# Altium schematic symbol library test.SchLib: 309 symbols (part 9 of 9)
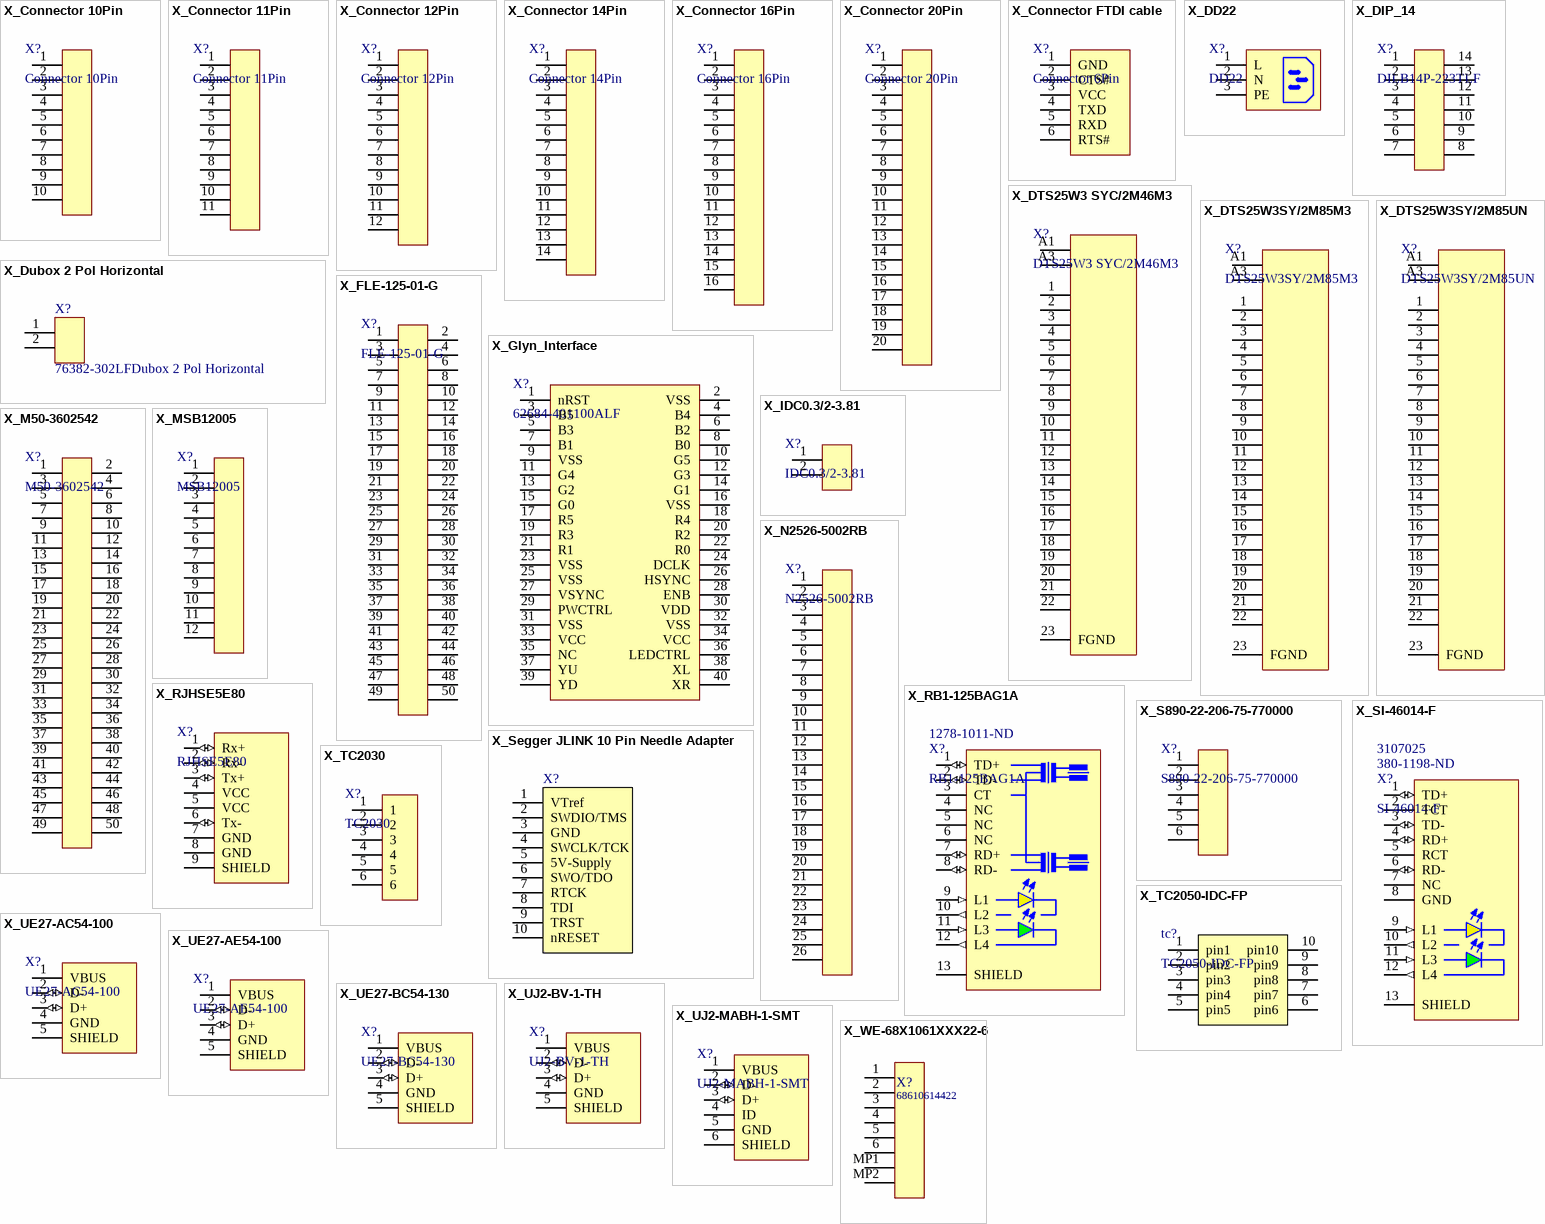
[diagram p16: symbols X_Connector 10Pin to X_WE-68X1061XXX22-6]

## X_DD22
designator X?, comment DD22
PWR ENT MOD RCPT IEC320-C14 PNL; Manufacturer: Schurter; Manufacturer Part Number: DD22.9121.1111; Max Voltage Rating (AC): 250V; Number of Contacts: 3; Current Rating: 10A; Connector Type: Receptacle; Fuse: Yes; Number of Ports: 1; Capacitance: 100nF; Gender: Male; Panel Thickness: 0.138inch; Ratings: IP40; Approvals: cULus; Supplier 1: Digi-Key; Supplier Part Number 1: 486-1324-ND; Stock 1: 369; Pricing 1: 1 = 28.45000, 50 = 26.16700, 100 = 23.88410 (USD); RoHS: Yes; Mount: Through Hole; Case/Package: Module; Weight: 3oz; Housing Material: Thermoplastic; Min Operating Temperature: -25°C; Max Operating Temperature: 85°C; Termination: Solder; Package Quantity: 20; Packaging: Bulk; Number of Positions: 3; Current: 10A; Voltage Rating: 250V; Max Current Rating: 10A; Voltage Rating (AC): 250V; Orientation: Right Angle; Voltage Rating (DC): 250V; Length: 66.3mm; Height: 33mm; Depth: 60.9mm; Width: 66.3mm; Radiation Hardening: No; Flammability Rating: UL94 V-0; REACH SVHC: No SVHC; ComponentLink1URL: https://datasheet.ciiva.com/25623/0900766b81148cd2-25623212.pdf?src-supplier=RSComponents; ComponentLink1Description: https://datasheet.ciiva.com/25623/0900766b81148cd2-25623212.pdf?src-supplier=RSComponents; ComponentLink2URL: https://datasheet.ciiva.com/4582/typ-dd22-4582999.pdf?src-supplier=Mouser; ComponentLink2Description: https://datasheet.ciiva.com/4582/typ-dd22-4582999.pdf?src-supplier=Mouser; ComponentLink3URL: https://datasheet.ciiva.com/16645/typ-dd22-16645175.pdf?src-supplier=Avnet+Europe; ComponentLink3Description: https://datasheet.ciiva.com/16645/typ-dd22-16645175.pdf?src-supplier=Avnet+Europe; ComponentLink4URL: https://datasheet.ciiva.com/1019/typ-dd22-1019705.pdf?src-supplier=Digi-Key; ComponentLink4Description: https://datasheet.ciiva.com/1019/typ-dd22-1019705.pdf?src-supplier=Digi-Key; ComponentLink5URL: https://datasheet.ciiva.com/1470/1712865-1470106.pdf?src-supplier=Element14; ComponentLink5Description: https://datasheet.ciiva.com/1470/1712865-1470106.pdf?src-supplier=Element14; ComponentLink6URL: https://datasheet.ciiva.com/3147/typ-dd22-3147709.pdf?src-supplier=Avnet; ComponentLink6Description: https://datasheet.ciiva.com/3147/typ-dd22-3147709.pdf?src-supplier=Avnet; ComponentLink7URL: https://datasheet.ciiva.com/14122/bnappliancecouplers-ce-conformity-d-e-f-14122957.pdf?src-supplier=Distrelec; ComponentLink7Description: https://datasheet.ciiva.com/14122/bnappliancecouplers-ce-conformity-d-e-f-14122957.pdf?src-supplier=Distrelec
footprint Schurter D22
pins: 1 L (power), 2 N (power), 3 PE (power)

## X_DIP_14
designator X?, comment DILB14P-223TLF
Conn DIP Socket SKT 14 POS 2.54mm Solder ST Thru-Hole Tube; Manufacturer: Amphenol ICC / FCI; Current Rating: 1A; Voltage Rating (AC): 200V; Contact Resistance: 20mR; Insulation Resistance: 500MR; Number of Positions: 14; Row Spacing: 7.62mm; Contact Post Length: 0.124inch; Supplier 1: Digi-Key; Supplier Part Number 1: 609-4712-ND; Manufacturer Part Number: DILB14P-223TLF; RoHS: Yes; Category: IC and Component Sockets; Stock 1: 8401; Pricing 1: 1=0.28000, 10=0.25800, 25=0.22040, 50=0.19280, 100=0.17910, 250=0.15844, 500=0.15154, 1000=0.12399, 2500=0.11366 (USD); Mount: Through Hole; Case/Package: DIP; Contact Plating: Tin; Contact Material: Copper Alloy,Bronze; Housing Material: Polyamide; Insulation Material: Polyester; Contact Finish - Mating: TIN; Min Operating Temperature: -55°C; Max Operating Temperature: 105°C; Package Quantity: 34; Number of Rows: 2; Packaging: Rail/Tube; Termination: Solder; Number of Contacts: 14; Voltage Rating: 200V; Connector Type: DIP; Orientation: Straight; Contact Type: SAF; Series: -; Length: 17.78mm; Width: 15.24mm; Pitch: 2.54mm; Depth: 10.16mm; Radiation Hardening: No; REACH SVHC: No SVHC; Flammability Rating: UL94 V-0; ComponentLink1URL: https://datasheet.ciiva.com/15171/getdatasheetpartid-85168-15171446.pdf?src-supplier=Verical; ComponentLink1Description: https://datasheet.ciiva.com/15171/getdatasheetpartid-85168-15171446.pdf?src-supplier=Verical; ComponentLink2URL: https://datasheet.ciiva.com/26929/getdatasheetpartid-771097-26929615.pdf?src-supplier=Verical; ComponentLink2Description: https://datasheet.ciiva.com/26929/getdatasheetpartid-771097-26929615.pdf?src-supplier=Verical; ComponentLink3URL: https://datasheet.ciiva.com/7644/10052485-7644415.pdf?src-supplier=Element14; ComponentLink3Description: https://datasheet.ciiva.com/7644/10052485-7644415.pdf?src-supplier=Element14; ComponentLink4URL: https://datasheet.ciiva.com/29706/10052485-29706856.pdf?src-supplier=Digi-Key; ComponentLink4Description: https://datasheet.ciiva.com/29706/10052485-29706856.pdf?src-supplier=Digi-Key; ComponentLink5URL: https://datasheet.ciiva.com/14602/70236934-14602829.pdf?src-supplier=Allied+Electronics; ComponentLink5Description: https://datasheet.ciiva.com/14602/70236934-14602829.pdf?src-supplier=Allied+Electronics; Supplier 2: Farnell; Stock 2: 5134; Pricing 2: 10=0.14900, 100=0.11700, 500=0.10600, 1000=0.09580, 2500=0.08760, 5000=0.08580 (GBP); Supplier 3: Farnell; Supplier Part Number 2: 2668404; Supplier Part Number 3: 1824462
footprint DIL-14 (14 way Augat tin plate DIL socket,0.3in)
pins: 1, 2, 3, 4, 5, 6, 7, 8, 9, 10, 11, 12, 13, 14

## X_DTS25W3 SYC/2M46M3
designator X?, comment DTS25W3 SYC/2M46M3
DTS25W3 SYC/2M46M3 Konfiguration / A1, A3: HPC-SYC4/2-40A: DE009516 / A2: PNC-SY4: DE016200; Manufacturer: Deltron; Supplier 2: Deltron; Supplier Part Number 2: DE016524; Manufacturer Part Number: DTS25W3 SYC/2M46M3; Case/Package: D-Sub; Supplier 1: Safematic; Supplier Part Number 1: *
footprint 25POL_DSUB_SPEZ_FEMALE
pins: 1 (power), 2 (power), 3 (power), 4 (power), 5 (power), 6 (power), 7 (power), 8 (power), 9 (power), 10 (power), 11 (power), 12 (power), 13 (power), 14 (power), 15 (power), 16 (power), 17 (power), 18 (power), 19 (power), 20 (power), 21 (power), 22 (power), 23 FGND (power), A1 (power), A3 (power)

## X_DTS25W3SY/2M85M3
designator X?, comment DTS25W3SY/2M85M3
DTS25W3SY/2M85M3 Konfiguration / A1, A3: HPC-SY4/2-40A: DE006048 / A2: PNC-SY4: DE016200; Manufacturer: Deltron; Manufacturer Part Number: DTS25W3 SYC/2M46M3; Supplier 2: Deltron; Case/Package: D-Sub; Supplier 1: Safematic; Supplier Part Number 1: *
footprint DTS25W3SY
pins: 1 (power), 2 (power), 3 (power), 4 (power), 5 (power), 6 (power), 7 (power), 8 (power), 9 (power), 10 (power), 11 (power), 12 (power), 13 (power), 14 (power), 15 (power), 16 (power), 17 (power), 18 (power), 19 (power), 20 (power), 21 (power), 22 (power), 23 FGND (power), A1 (power), A3 (power)

## X_DTS25W3SY/2M85UN
designator X?, comment DTS25W3SY/2M85UN
DTS25W3SY/2M85UN Konfiguration / A1, A3: HPC-SY4/2-40A: DE006048 / A2: PNC-SY4: DE016200; Manufacturer: Deltron; Supplier 2: Deltron; Manufacturer Part Number: DTS25W3SY/2M85UN; Case/Package: D-Sub; Supplier 1: Safematic; Supplier Part Number 1: *
footprint DTS25W3SY
pins: 1 (power), 2 (power), 3 (power), 4 (power), 5 (power), 6 (power), 7 (power), 8 (power), 9 (power), 10 (power), 11 (power), 12 (power), 13 (power), 14 (power), 15 (power), 16 (power), 17 (power), 18 (power), 19 (power), 20 (power), 21 (power), 22 (power), 23 FGND (power), A1 (power), A3 (power)

## X_Dubox 2 Pol Horizontal
designator X?, comment 76382-302LFDubox 2 Pol Horizontal
CONN HEADER 2POS .100" R/A GOLD; Manufacturer: Amphenol FCI; Number of Contacts: 2; Connector Type: Male Pin; Insulation Resistance: 100GR; Current Rating: 3A; Voltage Rating: 1kV; Gender: Male; Pitch: 2.54mm; Contact Post Length: 3.4mm; RoHS: Yes; Category: Headers and Wire Housings; Stock 1: 3451; Pricing 1: 10=0.41800, 100=0.31300, 500=0.27500, 1000=0.23000, 2500=0.20200, 5000=0.19800 (GBP); Mount: Through Hole; Contact Plating: Gold,GXT; Housing Material: Polyester; Contact Material: Bronze,Nickel,Gold; Color: Blue; Housing Color: Blue; Min Operating Temperature: -40°C; Max Operating Temperature: 125°C; Termination: Solder; Number of Rows: 1; Number of Positions: 2; Packaging: Bulk; Package Quantity: 500; Max Voltage Rating (AC): 1kV; Orientation: Right Angle; Fastening Type: Friction; Length: 4.9mm; Width: 9.34mm; Contact Mating Length: 0.197inch; Radiation Hardening: No; Lead Free: Lead Free; REACH SVHC: No SVHC; ComponentLink1URL: https://datasheet.ciiva.com/711/76382-711154.pdf?src-supplier=Digi-Key; ComponentLink1Description: https://datasheet.ciiva.com/711/76382-711154.pdf?src-supplier=Digi-Key; ComponentLink2URL: https://datasheet.ciiva.com/3118/76382-3118554.pdf?src-supplier=Avnet; ComponentLink2Description: https://datasheet.ciiva.com/3118/76382-3118554.pdf?src-supplier=Avnet; ComponentLink3URL: https://datasheet.ciiva.com/16656/76382-16656699.pdf?src-supplier=Avnet+Europe; ComponentLink3Description: https://datasheet.ciiva.com/16656/76382-16656699.pdf?src-supplier=Avnet+Europe; ComponentLink4URL: https://datasheet.ciiva.com/14155/gd116700-116785-14155518.pdf?src-supplier=Distrelec; ComponentLink4Description: https://datasheet.ciiva.com/14155/gd116700-116785-14155518.pdf?src-supplier=Distrelec; Supplier 1: Farnell; Supplier 2: Digi-Key; Supplier 3: Mouser; Supplier Part Number 1: 2490643; Supplier Part Number 2: 609-1278-ND; Supplier Part Number 3: 649-76382-302LF; Manufacturer Part Number: 76382-302LF
footprint Pin Header 1x2 TH Pitch 2.54mm Dubox h
pins: 1, 2

## X_FLE-125-01-G
designator X?, comment FLE-125-01-G
Conn Socket Strip SKT 50 POS 1.27mm Solder ST SMD Tube; Manufacturer: Samtec; Supplier 1: Digi-Key; Supplier Part Number 1: SAM9410-ND; Manufacturer Part Number: FLE-125-01; ComponentLink4URL: http://www.samtec.com/documents/webfiles/pdf/FLE_SM.PDF; ComponentLink4Description: http://www.samtec.com/documents/webfiles/pdf/FLE_SM.PDF; ComponentLink5URL: http://cloud.samtec.com/catalog_english/FLE_SM.PDF; ComponentLink5Description: http://cloud.samtec.com/catalog_english/FLE_SM.PDF
footprint FLE-125-01-G-DV-A
pins: 1, 2, 3, 4, 5, 6, 7, 8, 9, 10, 11, 12, 13, 14, 15, 16, 17, 18, 19, 20, 21, 22, 23, 24, 25, 26, 27, 28, 29, 30, 31, 32, 33, 34, 35, 36, 37, 38, 39, 40, 41, 42, 43, 44, 45, 46, 47, 48, 49, 50

## X_Glyn_Interface
designator X?, comment 62684-401100ALF
40 Position FPC Connector Contacts, Bottom 0.020" (0.50mm) Surface Mount, Right Angle, Amphenol 62684-401100ALF, TE  4-1734592-0; Manufacturer: Amphenol FCI; Supplier 1: Digi-Key; Supplier Part Number 1: 609-1195-1-ND; Manufacturer Part Number: 62684-401100ALF; ComponentLink1URL: https://datasheet.ciiva.com/25631/0900766b8118e51f-25631168.pdf; ComponentLink1Description: https://datasheet.ciiva.com/25631/0900766b8118e51f-25631168.pdf; ComponentLink2URL: https://datasheet.ciiva.com/3112/62684-3112007.pdf; ComponentLink2Description: https://datasheet.ciiva.com/3112/62684-3112007.pdf; ComponentLink3URL: https://datasheet.ciiva.com/670/62684-670200.pdf; ComponentLink3Description: https://datasheet.ciiva.com/670/62684-670200.pdf; ComponentLink4URL: https://datasheet.ciiva.com/670/62684-670201.pdf; ComponentLink4Description: https://datasheet.ciiva.com/670/62684-670201.pdf; ComponentLink5URL: https://datasheet.ciiva.com/670/62684-670202.pdf; ComponentLink5Description: https://datasheet.ciiva.com/670/62684-670202.pdf; ComponentLink6URL: https://datasheet.ciiva.com/16659/62684-16659882.pdf; ComponentLink6Description: https://datasheet.ciiva.com/16659/62684-16659882.pdf; ComponentLink7URL: https://datasheet.ciiva.com/16709/70236840-16709916.pdf; ComponentLink7Description: https://datasheet.ciiva.com/16709/70236840-16709916.pdf; ComponentLink8URL: https://datasheet.ciiva.com/3112/62684-3112397.pdf; ComponentLink8Description: https://datasheet.ciiva.com/3112/62684-3112397.pdf; ComponentLink9URL: https://datasheet.ciiva.com/5772/62684-5772782.pdf; ComponentLink9Description: https://datasheet.ciiva.com/5772/62684-5772782.pdf; Supplier 2: Digi-Key; Supplier Part Number 2: A100226CT-ND; Manufacturer 2: TE CONNECTIVITY; Stock 2: 2337; ComponentLink10URL: https://datasheet.ciiva.com/16317/4-1734592-0-16317310.pdf; ComponentLink10Description: https://datasheet.ciiva.com/16317/4-1734592-0-16317310.pdf; ComponentLink11URL: https://datasheet.ciiva.com/46396/1795029-46396773.pdf; ComponentLink11Description: https://datasheet.ciiva.com/46396/1795029-46396773.pdf; ComponentLink12URL: https://datasheet.ciiva.com/10365/eng-ds-1-1773440-6-0506-10365927.pdf; ComponentLink12Description: https://datasheet.ciiva.com/10365/eng-ds-1-1773440-6-0506-10365927.pdf; ComponentLink13URL: https://datasheet.ciiva.com/669/eng-cd-1734592-c-c-1734592-669272.pdf; ComponentLink13Description: https://datasheet.ciiva.com/669/eng-cd-1734592-c-c-1734592-669272.pdf; ComponentLink14URL: https://datasheet.ciiva.com/669/eng-cd-1734592-c-c-1734592-669273.pdf; ComponentLink14Description: https://datasheet.ciiva.com/669/eng-cd-1734592-c-c-1734592-669273.pdf; ComponentLink15URL: https://datasheet.ciiva.com/669/eng-cd-1734592-c-c-1734592-669274.pdf; ComponentLink15Description: https://datasheet.ciiva.com/669/eng-cd-1734592-c-c-1734592-669274.pdf; ComponentLink16URL: https://datasheet.ciiva.com/16660/eng-ds-1-1773440-6-0506-16660381.pdf; ComponentLink16Description: https://datasheet.ciiva.com/16660/eng-ds-1-1773440-6-0506-16660381.pdf; ComponentLink17URL: https://datasheet.ciiva.com/1437/586796-1437950.pdf; ComponentLink17Description: https://datasheet.ciiva.com/1437/586796-1437950.pdf; Manufacturer Part Number 2: 4-1734592-0
footprint 4-1734592-0
pins: 1 nRST, 2 VSS, 3 B5, 4 B4, 5 B3, 6 B2, 7 B1, 8 B0, 9 VSS, 10 G5, 11 G4, 12 G3, 13 G2, 14 G1, 15 G0, 16 VSS, 17 R5, 18 R4, 19 R3, 20 R2, 21 R1, 22 R0, 23 VSS, 24 DCLK, 25 VSS, 26 HSYNC, 27 VSYNC, 28 ENB, 29 PWCTRL, 30 VDD, 31 VSS, 32 VSS, 33 VCC, 34 VCC, 35 NC, 36 LEDCTRL, 37 YU, 38 XL, 39 YD, 40 XR

## X_IDC0.3/2-3.81
designator X?, comment IDC0.3/2-3.81
Conn Terminal Block 2 POS 3.81mm Solder ST Thru-Hole 5A; Manufacturer: Phoenix Contact; Max Supply Voltage: 160V; Wire Gauge (Max): 26AWG; Wire Gauge (Min): 22AWG; Supplier 1: Farnell; Supplier Part Number 1: 2927588; Manufacturer Part Number: IDC0.3/2-3.81; Stock 1: 0; RoHS: Yes; Housing Material: Polyamide; Number of Rows: 1; Max Current Rating: 5A; Termination: Solder; Orientation: Straight; Length: 8.81mm; Depth: 12.4mm; ComponentLink1URL: http://components.arrow.com/part/dataview/0323_01943627?src-supplier=Arrow+Europe; ComponentLink1Description: http://components.arrow.com/part/dataview/0323_01943627?src-supplier=Arrow+Europe
footprint IDC 0,3/ 2-3,81
pins: 1, 2

## X_M50-3602542
designator X?, comment M50-3602542
CONN HDR 1.27MM SMD AU 50POS; Manufacturer: Harwin; Number of Contacts: 50; Max Current Rating: 1A; Contact Resistance: 30mR; Gender: Male; Insulation Resistance: 5GR; Row Spacing: 0.05inch; Supplier 1: Digi-Key; Supplier Part Number 1: 952-1394-ND; Manufacturer Part Number: M50-3602542; Stock 1: 1032; Pricing 1: 1=4.29, 10=4.114, 100=3.428, 500=2.9138, 1000=2.4853 (USD); Mount: Surface Mount; Contact Plating: Gold; Contact Material: Copper,Copper Alloy; Colour: Black; Material: Thermoplastic; Housing Material: Thermoplastic; Min Operating Temperature: -40°C; Max Operating Temperature: 105°C; Number of Rows: 2; Termination: SMD/SMT; Packaging: Bulk; Package Quantity: 120; Current Rating: 1A; Number of Positions: 50; Orientation: Straight; Length: 31.75mm; Pitch: 1.27mm; Contact Mating Length: 0.118inch; Depth: 3.41mm; Radiation Hardening: No; REACH SVHC: No SVHC; ComponentLink1URL: https://datasheet.ciiva.com/14172/04391418-14172128.pdf; ComponentLink1Description: https://datasheet.ciiva.com/14172/04391418-14172128.pdf; ComponentLink2URL: https://datasheet.ciiva.com/11748/0900766b80da61e5-11748973.pdf; ComponentLink2Description: https://datasheet.ciiva.com/11748/0900766b80da61e5-11748973.pdf; ComponentLink3URL: https://datasheet.ciiva.com/9480/m50-360-9480343.pdf; ComponentLink3Description: https://datasheet.ciiva.com/9480/m50-360-9480343.pdf; ComponentLink4URL: https://datasheet.ciiva.com/5160/m50-360-350131-5160681.pdf; ComponentLink4Description: https://datasheet.ciiva.com/5160/m50-360-350131-5160681.pdf; ComponentLink5URL: https://datasheet.ciiva.com/409/m50-360-409180.pdf; ComponentLink5Description: https://datasheet.ciiva.com/409/m50-360-409180.pdf; ComponentLink6URL: https://datasheet.ciiva.com/23592/1693795-23592684.pdf; ComponentLink6Description: https://datasheet.ciiva.com/23592/1693795-23592684.pdf
footprint Pin Header 2x25 TH Pitch 1.27mm
pins: 1, 2, 3, 4, 5, 6, 7, 8, 9, 10, 11, 12, 13, 14, 15, 16, 17, 18, 19, 20, 21, 22, 23, 24, 25, 26, 27, 28, 29, 30, 31, 32, 33, 34, 35, 36, 37, 38, 39, 40, 41, 42, 43, 44, 45, 46, 47, 48, 49, 50

## X_MSB12005
designator X?, comment MSB12005
TERM BLOCK STRAIGHT 12P 5.08MM; Manufacturer: Sauro; Manufacturer Part Number: MSB12005-0N000E; Supplier 1: Arrow Europe; Supplier Part Number 1: MSB12005-0N000E; Stock 1: 0; RoHS: Yes
footprint MSB12005
pins: 1 (power), 2 (power), 3 (power), 4 (power), 5 (power), 6 (power), 7 (power), 8 (power), 9 (power), 10 (power), 11 (power), 12 (power)

## X_N2526-5002RB
designator X?, comment N2526-5002RB
Headers & Wire Housings 26P R/A SOLDER TAIL HIGH TEMP; Manufacturer: 3M; Contact Resistance: 20mR; Current Rating: 2A; Mating Cycles: 200; Voltage Rating (AC): 350V; Max Current Rating: 1.75A; Number of Poles: 26; Insulation Resistance: 1GR; Gender: Male; Connector Type: Male Pin; Pitch: 2.54mm; Row Spacing: 0.1inch; Hole Diameter: 0.89mm; Approvals: UL; Supplier 1: Farnell; Supplier Part Number 1: 9838392; Manufacturer Part Number: N2526-5002RB; Stock 1: 469; Pricing 1: 1 = 2.41000, 10 = 2.16000, 50 = 1.92000, 100 = 1.68000, 250 = 1.56000, 500 = 1.44000 (CHF); RoHS: Yes; Mount: Through Hole; Number of Pins: 26; Color: Black; Contact Plating: Gold; Contact Material: Copper Alloy; Housing Material: Polychlorinated; Housing Color: Black; Min Operating Temperature: -55°C; Max Operating Temperature: 105°C; Package Quantity: 392; Packaging: Bulk; Number of Rows: 2; Termination: Solder; Number of Contacts: 26; Working Voltage: 350V; Orientation: Right Angle; Number of Positions: 26; Length: 40.34mm; Height: 8.59mm; Lead Pitch: 2.54mm; Depth: 12.44mm; Contact Mating Length: 0.243inch; REACH SVHC: No SVHC; Lead Free: Lead Free; Flammability Rating: UL94 V-0; ComponentLink1URL: https://datasheet.ciiva.com/19461/1578664-19461178.pdf?src-supplier=Jameco; ComponentLink1Description: https://datasheet.ciiva.com/19461/1578664-19461178.pdf?src-supplier=Jameco; ComponentLink2URL: https://datasheet.ciiva.com/11748/0900766b807b18da-11748859.pdf?src-supplier=RSComponents; ComponentLink2Description: https://datasheet.ciiva.com/11748/0900766b807b18da-11748859.pdf?src-supplier=RSComponents; ComponentLink3URL: https://datasheet.ciiva.com/16730/ts0770-16730156.pdf?src-supplier=Avnet+Europe; ComponentLink3Description: https://datasheet.ciiva.com/16730/ts0770-16730156.pdf?src-supplier=Avnet+Europe; ComponentLink4URL: https://datasheet.ciiva.com/14157/n2510-xxxx-eng-tds-14157038.pdf?src-supplier=Distrelec; ComponentLink4Description: https://datasheet.ciiva.com/14157/n2510-xxxx-eng-tds-14157038.pdf?src-supplier=Distrelec
footprint HEADER26POL_ABGEWINKELT
pins: 1, 2, 3, 4, 5, 6, 7, 8, 9, 10, 11, 12, 13, 14, 15, 16, 17, 18, 19, 20, 21, 22, 23, 24, 25, 26

## X_RB1-125BAG1A
designator X?, comment RB1-125BAG1A  Supplier Part Number 1: 1278-1011-ND
Accessory RJ-45 With Transformer Connector - UDE; Manufacturer: WIZnet; Shielding: Shielded; Connector Type: RJ45; Number of Ports: 1; Number of Contacts: 8; Gender: Female; Direction: User Selectable; Number of Cores per Jack: 4; Pitch: 2.54mm; Manufacturer Part Number: RB1-125BAG1A; ComponentLink1URL: https://datasheet.ciiva.com/6930/rb1-125bag1a-approvalsheet-6930969.pdf; ComponentLink1Description: https://datasheet.ciiva.com/6930/rb1-125bag1a-approvalsheet-6930969.pdf; ComponentLink2URL: https://datasheet.ciiva.com/15367/rb1-125bag1a111-00-224696-15367787.pdf; ComponentLink2Description: https://datasheet.ciiva.com/15367/rb1-125bag1a111-00-224696-15367787.pdf; ComponentLink3URL: https://datasheet.ciiva.com/16480/rb1-125bag1a-16480451.pdf; ComponentLink3Description: https://datasheet.ciiva.com/16480/rb1-125bag1a-16480451.pdf; ComponentLink4URL: https://datasheet.ciiva.com/19455/2132875-19455478.pdf; ComponentLink4Description: https://datasheet.ciiva.com/19455/2132875-19455478.pdf; Manufacturer 2: Bel; Manufacturer Part Number 2: SI-46014-F; Stock 2: 14366; Pricing 2: 1=3.73, 10=3.576, 25=3.278, 50=3.129, 100=2.98, 250=2.60752, 500=2.533, 1000=2.1605, 2500=2.0115 (USD); Mount: Through Hole; Colour: Green,Yellow; Contact Material: Copper Alloy; Contact Plating: Gold; Housing Material: Thermoplastic; Min Operating Temperature: -40°C; Max Operating Temperature: 85°C; Packaging: Tray; Package Quantity: 320; Number of Rows: 1; Termination: Solder; Orientation: Vertical; ComponentLink5URL: https://datasheet.ciiva.com/9395/si-46014-f-9395379.pdf; ComponentLink5Description: https://datasheet.ciiva.com/9395/si-46014-f-9395379.pdf; Supplier 1: Digi-Key
footprint RB1-125BAG1A (CONN MAGJACK 1PORT 100 BASE-T)
pins: 1 TD+ (io), 2 TD- (io), 3 CT, 4 NC, 5 NC, 6 NC, 7 RD+ (io), 8 RD- (io), 9 L1 (in), 10 L2 (out), 11 L3 (in), 12 L4 (out), 13 SHIELD (power)

## X_RJHSE5E80
designator X?, comment RJHSE5E80
Modular Connectors / Ethernet Connectors High Speed RJ w/no LED's or Shield; Manufacturer: Amphenol Commercial; Voltage Rating: 125V; Manufacturer Part Number: RJHSE5E80; Termination: Solder; ComponentLink1URL: http://www.mouser.com/ds/2/18/Amphenol_RJHSE_BRO-311217.pdf; ComponentLink1Description: http://www.mouser.com/ds/2/18/Amphenol_RJHSE_BRO-311217.pdf; ComponentLink2URL: https://www.amphenolcanada.com/ProductSearch/pdf/RJHSE_BRO.pdf; ComponentLink2Description: https://www.amphenolcanada.com/ProductSearch/pdf/RJHSE_BRO.pdf; Supplier 1: Digi-Key; Supplier Part Number 1: RJHSE5E80-ND; ComponentLink3URL: https://datasheet.ciiva.com/16408/eng-cd-6368150-b1-16408714.pdf; ComponentLink3Description: https://datasheet.ciiva.com/16408/eng-cd-6368150-b1-16408714.pdf; ComponentLink4URL: https://datasheet.ciiva.com/30494/0900766b8121d3d0-30494389.pdf; ComponentLink4Description: https://datasheet.ciiva.com/30494/0900766b8121d3d0-30494389.pdf; ComponentLink5URL: https://datasheet.ciiva.com/30086/63681501-30086239.pdf; ComponentLink5Description: https://datasheet.ciiva.com/30086/63681501-30086239.pdf; ComponentLink7URL: https://datasheet.ciiva.com/685/eng-cd-6368150-c1-685799.pdf; ComponentLink7Description: https://datasheet.ciiva.com/685/eng-cd-6368150-c1-685799.pdf
footprint RJ45 (generic RJ45 footprint w/o LEDs)
pins: 1 Rx+ (io), 2 Rx- (io), 3 Tx+ (io), 4 VCC (power), 5 VCC (power), 6 Tx- (io), 7 GND (power), 8 GND (power), 9 SHIELD (power)

## X_S890-22-206-75-770000
designator X?, comment S890-22-206-75-770000
Custom Mill-Max; Manufacturer: Mill-Max; Manufacturer Part Number: S890-22-206-75-770000
footprint S890-22-206-75-770000_edge (S890-22-206-75-770000)
pins: 1, 2, 3, 4, 5, 6

## X_Segger JLINK 10 Pin Needle Adapter
designator X?, comment Segger JLINK 10 Pin Needle Adapter  (value not drawn)  (no BOM)
footprint TC2050-IDC-FP (footprint for test cable)
footprint TC2050-IDC-FP dual (footprint for test cable)
pins: 1 VTref, 2 SWDIO/TMS, 3 GND, 4 SWCLK/TCK, 5 5V-Supply, 6 SWO/TDO, 7 RTCK, 8 TDI, 9 TRST, 10 nRESET

## X_SI-46014-F
designator X?, comment SI-46014-F  Supplier Part Number 1: 380-1198-ND  Supplier Part Number 2: 3107025
CONN MAGJACK 1PORT 100 BASE-T; Manufacturer: Bel; Manufacturer Part Number: SI-46014-F; ComponentLink1URL: https://datasheet.ciiva.com/9395/si-46014-f-9395379.pdf; ComponentLink1Description: https://datasheet.ciiva.com/9395/si-46014-f-9395379.pdf; Supplier 1: Digi-Key; Supplier 2: Farnell
footprint SI-46001-F (CONN MAGJACK 1PORT 100 BASE-T)
pins: 1 TD+ (io), 2 TCT, 3 TD- (io), 4 RD+ (io), 5 RCT, 6 RD- (io), 7 NC, 8 GND (power), 9 L1 (in), 10 L2 (out), 11 L3 (in), 12 L4 (out), 13 SHIELD (power)

## X_TC2030
designator X?, comment TC2030  (no BOM)
Tag Connect 6 polig
footprint TC2030-MCP
footprint TC2030-MCP-NL
pins: 1, 2, 3, 4, 5, 6

## X_TC2050-IDC-FP
designator tc?, comment TC2050-IDC-FP  (no BOM)
TC2050-IDC-FP test connector footprint
footprint TC2050-IDC-FP (Footprint not found)
pins: 1 pin1, 2 pin2, 3 pin3, 4 pin4, 5 pin5, 6 pin6, 7 pin7, 8 pin8, 9 pin9, 10 pin10

## X_UE27-AC54-100
designator X?, comment UE27-AC54-100
USB - A USB 2.0 Receptacle Connector 4 Position Through Hole, Right Angle, Horizontal; Manufacturer: Amphenol Commercial; Supplier 1: Digi-Key; Supplier Part Number 1: UE27AC54100-ND; Manufacturer Part Number: UE27-AC54-100; ComponentLink1URL: https://datasheet.ciiva.com/3095/usb-cat-3095736.pdf; ComponentLink1Description: https://datasheet.ciiva.com/3095/usb-cat-3095736.pdf; ComponentLink2URL: https://datasheet.ciiva.com/16668/usb-cat-16668272.pdf; ComponentLink2Description: https://datasheet.ciiva.com/16668/usb-cat-16668272.pdf; ComponentLink3URL: https://datasheet.ciiva.com/851/ue27acx4x0x-851297.pdf; ComponentLink3Description: https://datasheet.ciiva.com/851/ue27acx4x0x-851297.pdf; ComponentLink4URL: https://datasheet.ciiva.com/12494/ue27acx4x0x-45641-12494043.pdf; ComponentLink4Description: https://datasheet.ciiva.com/12494/ue27acx4x0x-45641-12494043.pdf
footprint UE27AC54100
pins: 1 VBUS (power), 2 D- (io), 3 D+ (io), 4 GND (power), 5 SHIELD (power)

## X_UE27-AE54-100
designator X?, comment UE27-AE54-100
USB - A USB 2.0 Receptacle Connector 4 Position Through Hole, Vertical; Manufacturer: Amphenol; Supplier 1: Digi-Key; Supplier Part Number 1: UE27AE54100-ND; Manufacturer Part Number: UE27-AE54-100; ComponentLink1URL: https://datasheet.ciiva.com/23622/1682704-23622416.pdf; ComponentLink1Description: https://datasheet.ciiva.com/23622/1682704-23622416.pdf; ComponentLink2URL: https://datasheet.ciiva.com/851/ue27aex4x0x-851825.pdf; ComponentLink2Description: https://datasheet.ciiva.com/851/ue27aex4x0x-851825.pdf; ComponentLink3URL: https://datasheet.ciiva.com/4598/ue27aex4x0x-39597-4598819.pdf; ComponentLink3Description: https://datasheet.ciiva.com/4598/ue27aex4x0x-39597-4598819.pdf; ComponentLink4URL: https://datasheet.ciiva.com/16668/ue27aex4x0x-16668643.pdf; ComponentLink4Description: https://datasheet.ciiva.com/16668/ue27aex4x0x-16668643.pdf; ComponentLink5URL: https://datasheet.ciiva.com/3095/ue27aex4x0x-3095749.pdf; ComponentLink5Description: https://datasheet.ciiva.com/3095/ue27aex4x0x-3095749.pdf; ComponentLink6URL: https://datasheet.ciiva.com/8014/1682704-8014903.pdf; ComponentLink6Description: https://datasheet.ciiva.com/8014/1682704-8014903.pdf; ComponentLink7URL: https://datasheet.ciiva.com/16513/ue27aex4x0x-16513757.pdf; ComponentLink7Description: https://datasheet.ciiva.com/16513/ue27aex4x0x-16513757.pdf; Supplier 2: Digi-Key; Supplier Part Number 2: A121571-ND; ComponentLink8URL: https://datasheet.ciiva.com/16313/1734366-2-16313209.pdf; ComponentLink8Description: https://datasheet.ciiva.com/16313/1734366-2-16313209.pdf; ComponentLink9URL: https://datasheet.ciiva.com/851/eng-cd-1734366-c-851582.pdf; ComponentLink9Description: https://datasheet.ciiva.com/851/eng-cd-1734366-c-851582.pdf; Manufacturer 2: TE Connectivity; Manufacturer Part Number 2: 1734366-2; Supplier 3: Digi-Key; Supplier Part Number 3: 1175-1265-ND; Manufacturer 3: CNC Tech; Manufacturer Part Number 3: 1002-021-01000; ComponentLink10URL: https://datasheet.ciiva.com/6731/1002-021-01000-6731011.pdf; ComponentLink10Description: https://datasheet.ciiva.com/6731/1002-021-01000-6731011.pdf
footprint UE27AE54100
pins: 1 VBUS (power), 2 D- (io), 3 D+ (io), 4 GND (power), 5 SHIELD (power)

## X_UE27-BC54-130
designator X?, comment UE27-BC54-130
USB Connectors 4P PCB R/A TYPE B BLACK W/ REAR SHIELD; Manufacturer: Amphenol Commercial; Manufacturer Part Number: UE27-BC54-130; ComponentLink1URL: https://datasheet.ciiva.com/10945/ue27bcx4xxx-10945210.pdf; ComponentLink1Description: https://datasheet.ciiva.com/10945/ue27bcx4xxx-10945210.pdf; ComponentLink2URL: https://datasheet.ciiva.com/851/ue27bcx4xxx-851809.pdf; ComponentLink2Description: https://datasheet.ciiva.com/851/ue27bcx4xxx-851809.pdf; ComponentLink3URL: https://datasheet.ciiva.com/16668/ue27bcx4xxx-16668218.pdf; ComponentLink3Description: https://datasheet.ciiva.com/16668/ue27bcx4xxx-16668218.pdf; Supplier 1: Digi-Key; Supplier Part Number 1: UE27BC54130-ND
footprint UE27BC54130 (USB RCPT GOLD TYPE B R/A)
pins: 1 VBUS (power), 2 D- (io), 3 D+ (io), 4 GND (power), 5 SHIELD (power)

## X_UJ2-BV-1-TH
designator X?, comment UJ2-BV-1-TH
USB - B USB 2.0 Receptacle Connector 4 Position Through Hole, Vertical; Manufacturer: CUI; Supplier 1: Digi-Key; Supplier Part Number 1: 102-4000-ND; Manufacturer Part Number: UJ2-BV-1-TH; ComponentLink1URL: http://www.cui.com/product/resource/digikeypdf/uj2-bv-1-th.pdf; ComponentLink1Description: http://www.cui.com/product/resource/digikeypdf/uj2-bv-1-th.pdf
footprint UJ2-BV-1-TH
pins: 1 VBUS (power), 2 D- (io), 3 D+ (io), 4 GND (power), 5 SHIELD (power)

## X_UJ2-MABH-1-SMT
designator X?, comment UJ2-MABH-1-SMT
USB - mini AB USB 2.0 Receptacle Connector 5 Position Surface Mount, Right Angle, Horizontal; Manufacturer: CUI; Connector Type: Jack; Number of Contacts: 5; Supplier 1: Digi-Key; Supplier Part Number 1: 102-4004-2-ND; Manufacturer Part Number: UJ2-MABH-1-SMT; Stock 1: 725; Pricing 1: 1=0.84, 10=0.589, 100=0.3963, 750=0.2754, 1500=0.2295, 3750=0.20655, 5250=0.20349, 18750=0.19508, 37500=0.19125, 75000=0.18743 (USD); Mount: Surface Mount,Horizontal; Packaging: Tape and Reel; Gender: Receptacle; Orientation: Horizontal; Lead Free: Lead Free
footprint UJ2-MABH-SMT
pins: 1 VBUS (power), 2 D- (io), 3 D+ (io), 4 ID, 5 GND (power), 6 SHIELD (power)

## X_WE-68X1061XXX22-6
designator X?, comment 68610614422
CONN FPC BOTTOM 6POS 1.00MM R/A; Manufacturer: Wurth Elektronik; Contact Resistance: 20mOhm; Rated Current: 1A; Pitch: 1mm; Withstanding Voltage: 500VAC; Contact Design: BottomContact; Working Voltage: 125VAC; Pin Number: 6; Actuator Material: Polyphenylene; Gender: Male; Voltage Rating: 125V; Operating Temperature: -25to85degC; Packaging: TapeandReel; Manufacturer URL: http://www.we-online.de; Part Number: 68610614422; Publisher: WurthElektronik; Package Reference: 68610614422; Datasheet URL: https://katalog.we-online.de/em/datasheet/68610614422.pdf; Mounting Technology: SMT; Orientation: Horizontal; Supplier 1: Farnell; Supplier 2: Digi-Key; Manufacturer Part Number: 68610614422; RoHS: Yes; Category: FFC / FPC; Stock 2: 498; Pricing 2: 1=0.78000, 10=0.72100, 50=0.67000, 100=0.58000, 500=0.55400 (USD); Mount: Surface Mount; Contact Material: Bronze,Tin; Contact Plating: Tin; Housing Material: Polyphenylene; Min Operating Temperature: -25°C; Max Operating Temperature: 85°C; Package Quantity: 1500; Number of Rows: 1; Number of Positions: 6; Termination: Solder; Number of Contacts: 6; Current Rating: 1A; Length: 13mm; Width: 3mm; REACH SVHC: Unknown; Flammability Rating: UL94 V-0; ComponentLink1URL: https://datasheet.ciiva.com/25617/0900766b81113967-25617781.pdf?src-supplier=RSComponents; ComponentLink1Description: https://datasheet.ciiva.com/25617/0900766b81113967-25617781.pdf?src-supplier=RSComponents; ComponentLink2URL: https://datasheet.ciiva.com/29318/708944-da-01-en-smd-zif-stecker-90-kontakte-unten-6-pol-29318354.pdf?src-supplier=Conrad; ComponentLink2Description: https://datasheet.ciiva.com/29318/708944-da-01-en-smd-zif-stecker-90-kontakte-unten-6-pol-29318354.pdf?src-supplier=Conrad; ComponentLink3URL: https://datasheet.ciiva.com/672/6861xx14422-672000.pdf?src-supplier=Digi-Key; ComponentLink3Description: https://datasheet.ciiva.com/672/6861xx14422-672000.pdf?src-supplier=Digi-Key; ComponentLink4URL: https://datasheet.ciiva.com/7662/76613-7662597.pdf?src-supplier=Element14; ComponentLink4Description: https://datasheet.ciiva.com/7662/76613-7662597.pdf?src-supplier=Element14; ComponentLink5URL: https://datasheet.ciiva.com/671/6861xx14422-671998.pdf?src-supplier=Digi-Key; ComponentLink5Description: https://datasheet.ciiva.com/671/6861xx14422-671998.pdf?src-supplier=Digi-Key; ComponentLink6URL: https://datasheet.ciiva.com/671/6861xx14422-671999.pdf?src-supplier=Digi-Key; ComponentLink6Description: https://datasheet.ciiva.com/671/6861xx14422-671999.pdf?src-supplier=Digi-Key; Supplier 3: Mouser; Stock 3: 4749; Pricing 3: 1=0.81000, 10=0.74600, 50=0.69300, 100=0.60000, 1000=0.54500, 10000=0.54500 (USD); Stock 1: 247; Pricing 1: 10=0.53400, 50=0.49600, 100=0.43000, 250=0.42900, 500=0.41000, 1500=0.35300 (GBP); Supplier Part Number 1: 1641896; Supplier Part Number 2: 732-1994-1-ND; Supplier Part Number 3: 710-68610614422
footprint 68610614422 (ZIF Connectors, Horizontal, Bottom Contact, pitch 1mm, 6p)
pins: 1, 2, 3, 4, 5, 6, MP1, MP2